# EAGLE library part 66201021022 (library Wurth_Elektronik_Electromechanic_Wire_to_Board_Connectors_rev15c)
WR-MPC3 3.00mm Male Dual Row Angled Header with Plastic Pegs, 10 Pins=>Code : Con_WTB-MPC3_2_PCB_THT66201021022 <http://katalog.we-online.de/media/thumbs2/eican/thb_Con_WTB-MPC3_2_PCB_THT86220xx21022_pf2.jpg> Details see: http://katalog.we-online.de/en/em/662_0xx_210_22 Created 2014-06-06, Karrer Zheng 2014 (C) Würth Elektronik
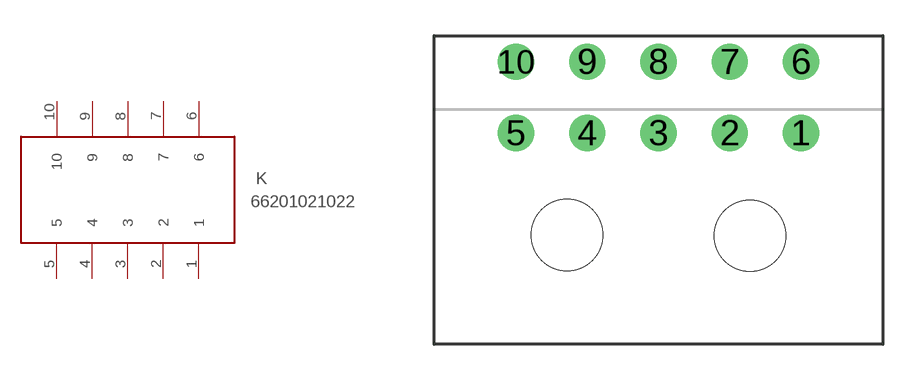
[diagram p349: symbol with the pads of 66201021022; footprint 66201021022]

Designator prefix K

## 66201021022  [66201021022]
1  1
2  2
3  3
4  4
5  5
6  6
7  7
8  8
9  9
10  10

## Footprint 66201021022 (pad centres in mm)
WR-MPC3 3.00mm Male Dual Row Angled Header with Plastic Pegs, 10 Pins
drill 1.02: 1 0,-1.5; 2 -3,-1.5; 3 -6,-1.5; 4 -9,-1.5; 5 -12,-1.5; 6 0,1.5; 7 -3,1.5; 8 -6,1.5; 9 -9,1.5; 10 -12,1.5
hole 3 at -2.15,-5.83
hole 3 at -9.85,-5.8